# Altium schematic symbol library Sch_Transistor.SchLib: 1 symbol
Pins are listed as number, name and electrical type; pins without a type are passive.

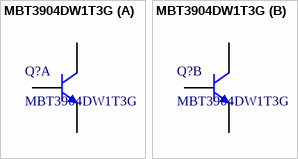
[diagram p0: symbol MBT3904DW1T3G]

## MBT3904DW1T3G
designator Q?
40V 100@10mA,1.0V 150mW 200mA NPN+NPN SOT-363-6 Bipolar (BJT) ROHS; Manufacturer: onsemi; Package Body Material: Plastic; Transistor Element Material: SILICON; Polarity/Channel Type: NPN; DC Current Gain-Min (hFE): 30; Number of Elements: 2; Time @ Peak Reflow Temperature-Max (s): 40s; Transistor Application: AMPLIFIER; Frequency: 300MHz; Turn-off Time-Max (toff): 250ns; Turn-on Time-Max (ton): 70ns; Qualification Status: Not Qualified; Supplier: Digikey; Supplier Part Number: MBT3904DW1T3GOSCT-ND; Manufacturer Part Number: MBT3904DW1T3G; RoHS: Yes; Category: BJTs; Stock: 13272; Pricing: 1=0.18, 10=0.108, 100=0.0666, 500=0.04844, 1000=0.04254, 2000=0.03755, 5000=0.03213 (USD); Pins: 6; Package Shape: Rectangular; Terminal Finish: Tin; Max Operating Temperature: 150°C; JESD-609 Code: e3; Max Collector Current: 200mA; Collector-emitter Voltage-Max: 40V; JESD-30 Code: R-PDSO-G6; Moisture Sensitivity Level: 1; Package Style: SMALL OUTLINEMeter; Peak Reflow Temperature (Cel): 260°C; Power Dissipation-Max (Abs): 150mW; Surface Mount: Yes; Terminal Form: Gull Wing; Terminal Position: DUAL; Reach SVHC Compliant: Yes; RoHS Compliant: Yes; ComponentLink1URL: https://datasheet.ciiva.com:443/pdfs/VipMasterIC/IC/ONSM/ONSML02701/ONSM-S-Z0000002228-1.pdf?src-supplier=IHS+Markit; ComponentLink1Description: https://datasheet.ciiva.com:443/pdfs/VipMasterIC/IC/ONSM/ONSML02701/ONSM-S-Z0000002228-1.pdf?src-supplier=IHS+Markit; ComponentLink2URL: https://datasheet.ciiva.com/1259/mbt3904dw1t1-d-1259216.pdf?src-supplier=Newark; ComponentLink2Description: https://datasheet.ciiva.com/1259/mbt3904dw1t1-d-1259216.pdf?src-supplier=Newark; ComponentLink3URL: https://datasheet.ciiva.com/4722/mbt3904dw1t1-d-90436-4722004.pdf?src-supplier=Mouser; ComponentLink3Description: https://datasheet.ciiva.com/4722/mbt3904dw1t1-d-90436-4722004.pdf?src-supplier=Mouser; ComponentLink4URL: https://datasheet.ciiva.com/11204/mbt3904dw1t1-d-11204734.pdf?src-supplier=Avnet; ComponentLink4Description: https://datasheet.ciiva.com/11204/mbt3904dw1t1-d-11204734.pdf?src-supplier=Avnet; LCSC Part #: C896759
footprint SOT65P210X110-6N
part A pins: 1 E, 2 B, 6 C
part B pins: 3 C, 4 E, 5 B